# Altium footprint library BD12510A03050580LB.PcbLib: 1 footprints
Each footprint in its own frame and in the unit in brackets; x right, y up, seen from the top. Pads: shape width x height; smd on the part's side, far side on the other; paste and mask are expansions set on the pad; w line width, h text height; cw(c..) or ccw(c..) is an arc to the next point about the centre after c.
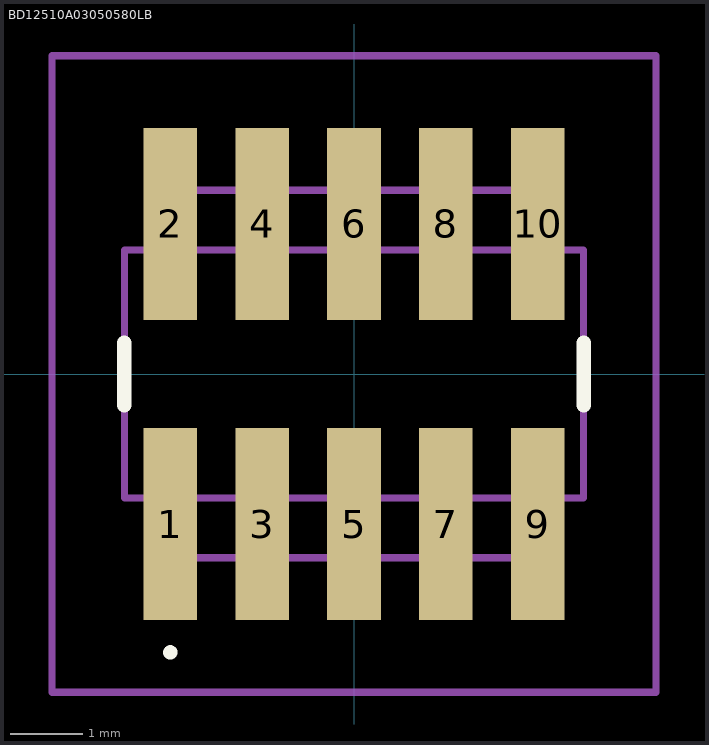
[diagram p0: the footprint, top view; thin cyan lines are the x and y axes]

## BD12510A03050580LB [mm]
pads (10):
  rect 0.74x2.65 smd: 1(-2.54,-2.075) 2(-2.54,2.075) 3(-1.27,-2.075) 4(-1.27,2.075) 5(0,-2.075) 6(0,2.075) 7(1.27,-2.075) 8(1.27,2.075) 9(2.54,-2.075) 10(2.54,2.075)
Top Overlay:
  lines w0.1: -2.54,-3.9 cw(c-2.54,-3.85) -2.54,-3.8 ; -2.54,-3.9 -2.54,-3.9 ; -2.54,-3.9 ccw(c-2.54,-3.85) -2.54,-3.8 ; -2.54,-3.8 -2.54,-3.8
  lines w0.2: -3.175,-0.429 -3.175,0.429 ; 3.175,-0.429 3.175,0.429
Mechanical 15:
  lines w0.1: -2.54,-1.715 -2.54,-2.54 2.54,-2.54 2.54,-1.715 ; -2.54,1.715 -2.54,2.54 2.54,2.54 2.54,1.715 ; -3.175,-1.715 3.175,-1.715 3.175,1.715 -3.175,1.715 -3.175,-1.715
Mechanical 20:
  lines w0.1: -4.175,-4.4 4.175,-4.4 4.175,4.4 -4.175,4.4 -4.175,-4.4